# Altium footprint library pcblib.PcbLib: 44 footprints (part 2 of 3)
Each footprint in its own frame and in the unit in brackets; x right, y up, seen from the top. Pads: shape width x height; smd on the part's side, far side on the other; paste and mask are expansions set on the pad; w line width, h text height; cw(c..) or ccw(c..) is an arc to the next point about the centre after c.
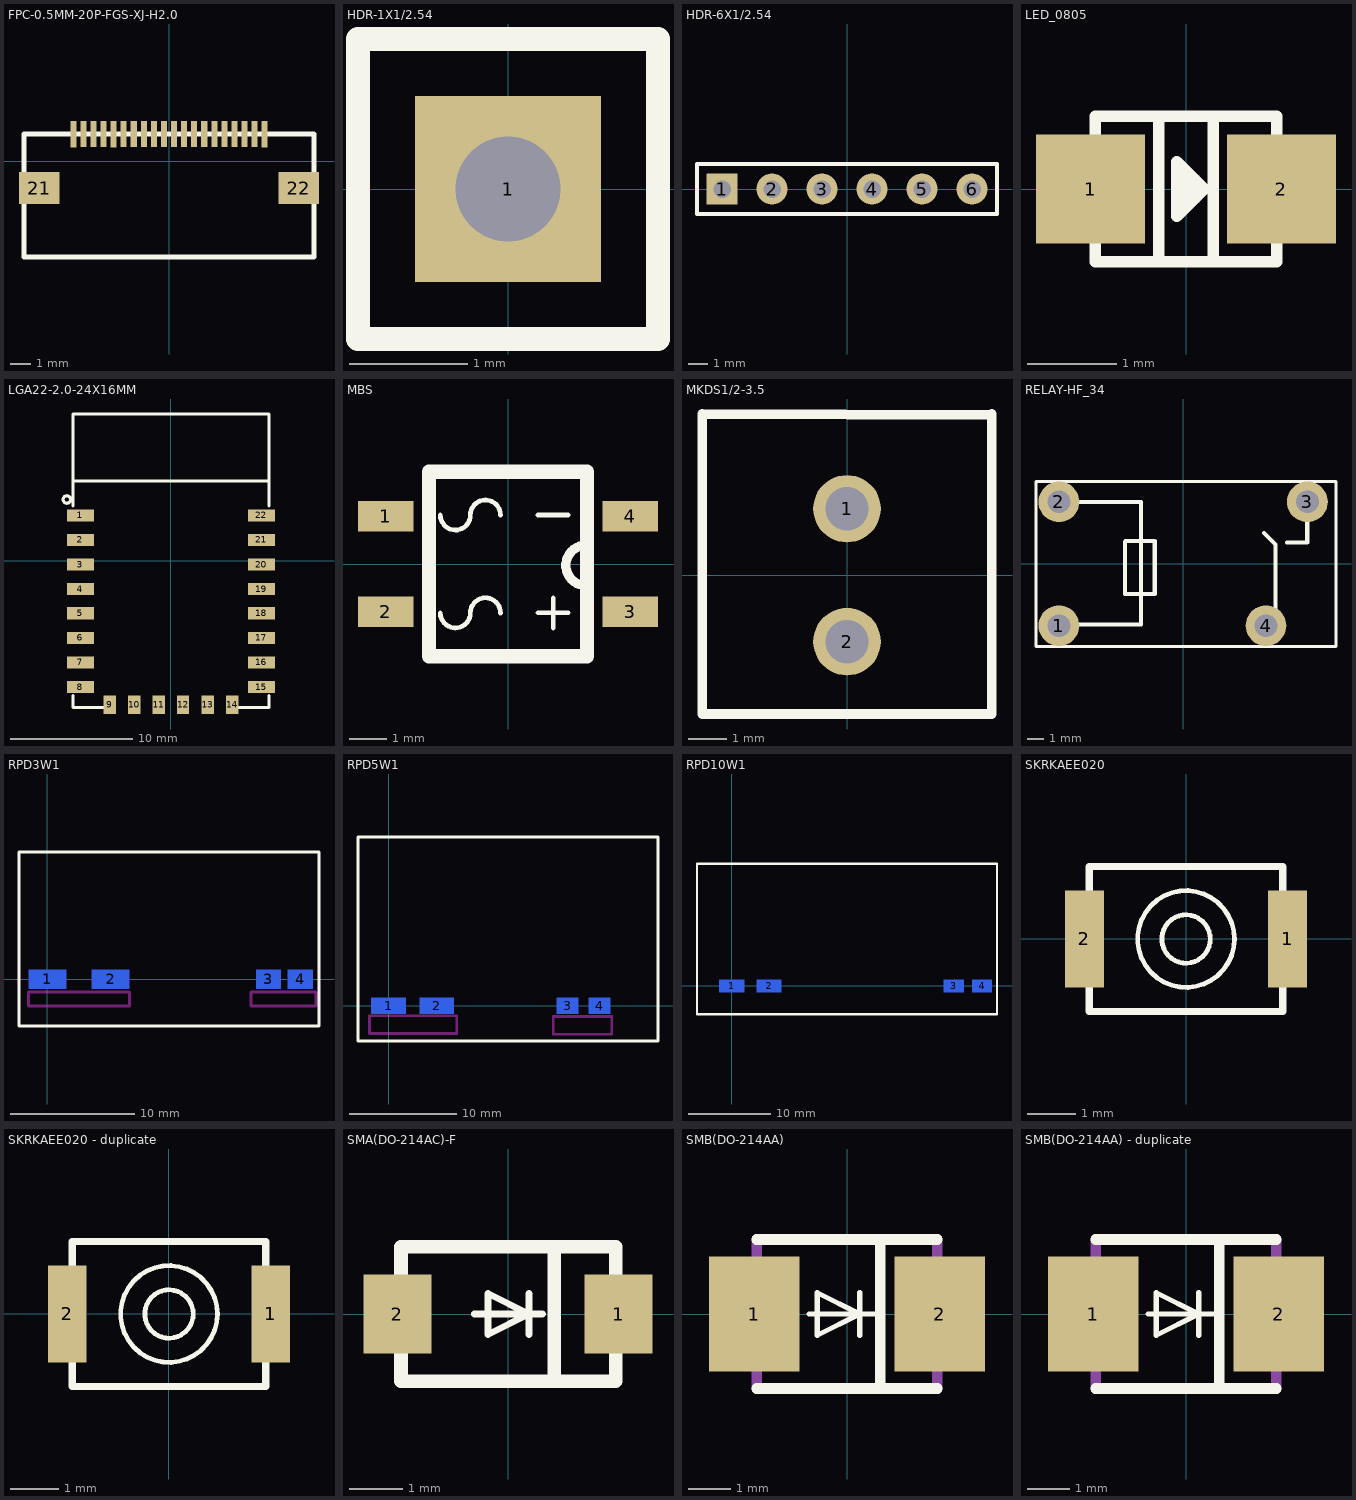
[diagram p1: the footprints below, top view; thin cyan lines are the x and y axes]

## FPC-0.5MM-20P-FGS-XJ-H2.0 [mm]
pads (22):
  rect 0.3x1.3 smd: 1(-4.748,1.338) 2(-4.25,1.34) 3(-3.75,1.34) 4(-3.25,1.34) 5(-2.748,1.338) 6(-2.25,1.34) 7(-1.75,1.34) 8(-1.25,1.34) 9(-0.75,1.34) 10(-0.25,1.34) 11(0.25,1.34) 12(0.75,1.34) 13(1.25,1.34) 14(1.75,1.34) 15(2.25,1.34) 16(2.75,1.34) 17(3.25,1.34) 18(3.75,1.34) 19(4.25,1.34) 20(4.752,1.338)
  rect 2x1.6 smd: 21(-6.45,-1.34) 22(6.45,-1.34)
Top Overlay:
  lines w0.254: -7.2,-4.76 7.2,-4.76 7.2,1.34 -7.2,1.34 -7.2,-4.76

## HDR-1X1/2.54 [mil]
pads (1):
  rect 62x62 hole 35: 1(0,0)
Top Overlay:
  lines w7.99: 50,-50 50,-25
  lines w8: 50,-50 -50,-50 -50,50 50,50 50,-25

## HDR-6X1/2.54 [mil]
pads (6):
  rect 62x62 hole 35: 1(-250,0)
  round 62 hole 35: 2(-150,0) 3(-50,0) 4(50,0) 5(150,0) 6(250,0)
Top Overlay:
  lines w7.99: -225,50 300,50
  lines w8: -225,50 -300,50 -300,-50 300,-50 300,50

## LED_0805 [mil]
pads (2):
  rect 48x48 smd: 1(-42,0) 2(42,0)
Top Overlay:
  lines w5.08: -12,-32 -12,32 ; 0,-8 0,8 ; 4,-4 4,4 ; 12,-32 12,32 ; -40,-32 40,-32 40,32 -40,32 -40,-32 ; -4,-12 -4,12 8,0 -4,-12

## LGA22-2.0-24X16MM [mil]
pads (22):
  rect 86.6x39.4 smd: 1(-291,146) 2(-291,67) 3(-291,-12) 4(-291,-91) 5(-291,-169) 6(-291,-248) 7(-291,-327) 8(-291,-406) 15(291,-406) 16(291,-327) 17(291,-248) 18(291,-169) 19(291,-91) 20(291,-12) 21(291,67) 22(291,146)
  rect 39.4x59.1 smd: 9(-197,-463.05) 10(-118,-463.05) 11(-39,-463.05) 12(39,-463.05) 13(118,-463.05) 14(197,-463.05)
Top Overlay:
  circle w10: c-335,197 r12
  lines w10: -315,-433 -315,-472 -217,-472 ; -315,177 -315,256 ; 217,-472 315,-472 315,-433 ; 315,177 315,256 ; -315,256 315,256 ; -315,256 -315,472 315,472 315,256

## MBS [mm]
pads (4):
  rect 1.5x0.813 smd: 1(-3.3,1.29) 2(-3.3,-1.29) 3(3.3,-1.29) 4(3.3,1.29)
Top Overlay:
  lines w0.129: -1.827,-1.321 ccw(c-1.422,-1.321) -1.422,-1.726 ccw(c-1.422,-1.321) -1.017,-1.321 cw(c-0.609,-1.321) -0.609,-0.914 cw(c-0.609,-1.321) -0.201,-1.321 ; -1.827,1.321 ccw(c-1.422,1.321) -1.422,0.916 ccw(c-1.422,1.321) -1.017,1.321 cw(c-0.609,1.321) -0.609,1.729 cw(c-0.609,1.321) -0.201,1.321 ; 0.813,-1.318 1.626,-1.318 ; 0.813,1.321 1.626,1.321 ; 1.219,-1.727 1.219,-0.914
  lines w0.254: 2.108,-0.584 cw(c2.108,-0.038) 2.108,0.508
  lines w0.387: -2.134,-2.489 2.134,-2.489 2.134,2.489 -2.134,2.489 -2.134,-2.489

## MKDS1/2-3.5 [mil]
pads (2):
  round 70 hole 45: 1(0,68.9) 2(0,-68.9)
Top Overlay:
  lines w10: -150,165.1 -150,-143.9 150,-143.9 150,167.1 ; -150,167.1 149,166.1

## RELAY-HF_34 [mm]
pads (4):
  round 2.5 hole 1.4: 1(-7.62,-3.8) 2(-7.62,3.8) 3(7.62,3.8) 4(5.08,-3.8)
Top Overlay:
  lines w0.203: 9.37,4.91 9.37,4.92 9.37,5.039 -9.027,5.039 -9.027,-5.08 9.373,-5.08 9.373,4.92
  lines w0.254: -7.85,-3.83 -7.85,-3.73 -2.59,-3.73 -2.59,3.79 -7.71,3.79 ; -3.57,1.35 -3.57,-1.85 -1.74,-1.85 -1.74,1.39 -3.53,1.39 ; 4.96,1.89 5.67,1.18 5.67,-3.9 ; 6.36,1.31 7.61,1.31 7.61,3.82

## RPD3W1 [mm]
pads (4):
  rect 3x1.524 smd far side: 1(0,0) 2(5.08,0)
  rect 2x1.524 smd far side: 3(17.78,0) 4(20.34,0)
Top Overlay:
  lines w0.254: -2.286,-3.762 -2.286,10.238 21.844,10.238 21.844,6.738 21.844,-0.262 21.844,-3.762 -2.286,-3.762
Keep-Out Layer:
  lines w0.254: -1.524,-2.159 -1.524,-1.016 6.604,-1.016 6.604,-2.159 -1.524,-2.159 ; 16.383,-2.159 21.59,-2.159 21.59,-1.016 16.383,-1.016 16.383,-2.159

## RPD5W1 [mm]
pads (4):
  rect 3.2x1.524 smd far side: 1(0,0) 2(4.5,0)
  rect 2x1.524 smd far side: 3(16.7,0) 4(19.7,0)
Top Overlay:
  lines w0.254: -2.854,-3.302 25.146,-3.302 25.146,15.748 -2.854,15.748 -2.854,-3.302
Keep-Out Layer:
  lines w0.254: -1.778,-2.603 -1.778,-0.953 6.35,-0.953 6.35,-2.603 -1.778,-2.603 ; 15.367,-2.667 20.828,-2.667 20.828,-1.016 15.367,-1.016 15.367,-2.667

## RPD10W1 [mm]
pads (4):
  rect 3x1.524 smd far side: 1(0,0) 2(4.5,0)
  rect 2.4x1.524 smd far side: 3(26.8,0) 4(30.2,0)
Top Overlay:
  lines w0.254: -4.191,-3.429 32.004,-3.429 32.004,14.732 -4.191,14.732 -4.191,-3.429

## SKRKAEE020 [mm]
pads (2):
  rect 0.8x2 smd: 1(2.099,0) 2(-2.099,0)
Top Overlay:
  circle w0.1: c0,-0.003 r1
  circle w0.1: c0,-0.003 r0.5
  lines w0.15: -2,-1.502 2,-1.502 2,1.498 -2,1.498 -2,-1.502

## SKRKAEE020 - duplicate [mm]
pads (2):
  rect 0.8x2 smd: 1(2.1,0) 2(-2.1,0)
Top Overlay:
  circle w0.1: c0,-0.003 r1
  circle w0.1: c0,-0.003 r0.5
  lines w0.15: -2,-1.502 2,-1.502 2,1.498 -2,1.498 -2,-1.502

## SMA(DO-214AC)-F [mil]
pads (2):
  rect 50x57.9 smd: 1(81,0) 2(-81,0)
Top Overlay:
  lines w5: -24.7,0 25.3,0 ; 15.3,-15 15.3,0 ; 15.3,15 15.3,0 ; 15.3,0 -14.7,-15 -14.7,0 -14.7,15 15.3,0
  lines w10: 34,-49 34,49 ; -78.4,-49.2 79,-49.2 79,49.2 -78.4,49.2 -78.4,-49.2

## SMB(DO-214AA) [mil]
pads (2):
  rect 85x108 smd: 1(-87,0) 2(87,0)
Top Overlay:
  lines w5: -35.43,0 32.13,0 ; 12.13,-20 12.13,20 12.13,0 ; 12.13,0 -27.87,-20 -27.87,20 12.13,0
  lines w10: -85,-70 85,-70 ; -85,70 85,70 ; 31.19,-70 31.19,70
Mechanical 15:
  lines w10: -85,-70 -85,70 ; -85,-40 -110,-40 -110,40 -85,40 ; 85,-70 85,70 ; 85,-40 110,-40 110,40 85,40

## SMB(DO-214AA) - duplicate [mil]
pads (2):
  rect 85x108 smd: 1(-87,0) 2(87,0)
Top Overlay:
  lines w5: -35.43,0 32.13,0 ; 12.13,-20 12.13,20 12.13,0 ; 12.13,0 -27.87,-20 -27.87,20 12.13,0
  lines w10: -85,-70 85,-70 ; -85,70 85,70 ; 31.19,-70 31.19,70
Mechanical 15:
  lines w10: -85,-70 -85,70 ; -85,-40 -110,-40 -110,40 -85,40 ; 85,-70 85,70 ; 85,-40 110,-40 110,40 85,40